# Altium schematic symbol library APDS-9300.Schlib: 1 symbol
Pins are listed as number, name and electrical type; pins without a type are passive.

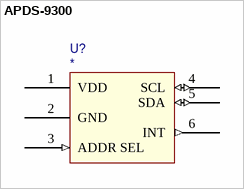
[diagram p0: symbol APDS-9300]

## APDS-9300
designator U?
pins: 1 VDD (power), 2 GND (power), 3 ADDR SEL (in), 4 SCL (io), 5 SDA (io), 6 INT (out)